# Altium footprint library PcbLib2.PcbLib: 4 footprints
Each footprint in its own frame and in the unit in brackets; x right, y up, seen from the top. Pads: shape width x height; smd on the part's side, far side on the other; paste and mask are expansions set on the pad; w line width, h text height; cw(c..) or ccw(c..) is an arc to the next point about the centre after c.
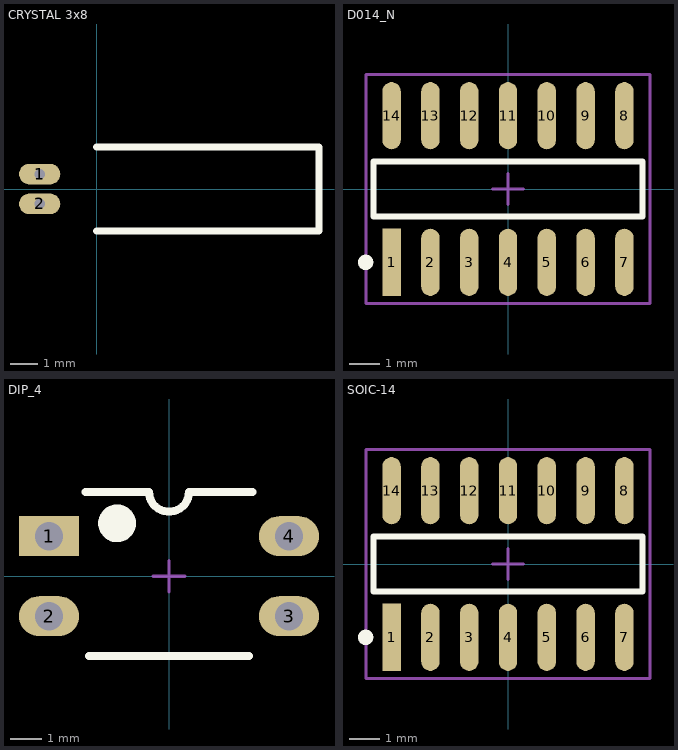
[diagram p0: the footprints below, top view; thin cyan lines are the x and y axes]

## CRYSTAL 3x8 [mil]
pads (2):
  oval 60x30 hole 15: 1(-82.68,21.65) 2(-82.68,-21.65)
Top Overlay:
  lines w10: 0,-61.02 322.83,-61.02 322.83,61.02 0,61.02
3D body: height 120.08, standoff -1.97, extent -116.13,-61.03 322.84,61.02

## D014_N [mm] "SOIC, 14-Leads, Body 8.7x3.9mm, Pitch 1.27mm, IPC Medium Density"
height 1.75
pads (14):
  rect 0.6x2.2 smd: 1(-3.81,-2.4)
  oval 0.6x2.2 smd: 2(-2.54,-2.4) 3(-1.27,-2.4) 4(0,-2.4) 5(1.27,-2.4) 6(2.54,-2.4) 7(3.81,-2.4) 8(3.81,2.4) 9(2.54,2.4) 10(1.27,2.4) 11(0,2.4) 12(-1.27,2.4) 13(-2.54,2.4) 14(-3.81,2.4)
Top Overlay:
  circle w0.25: c-4.66,-2.4 r0.125
  lines w0.2: -4.4,-0.9 -4.4,0.9 4.4,0.9 4.4,-0.9 -4.4,-0.9
Mechanical 15:
  lines w0.1: -0.5,0 0.5,0 ; 0,-0.5 0,0.5 ; -4.65,-3.75 -4.65,3.75 4.65,3.75 4.65,-3.75 -4.65,-3.75
3D body: height 1.75, standoff 0, extent -4.375,-3 4.375,3

## DIP_4 [mm]
pads (4):
  rect 1.905x1.27 hole 0.9: 1(-3.81,1.27)
  oval 1.905x1.27 hole 0.9: 2(-3.81,-1.27) 3(3.81,-1.27) 4(3.81,1.27)
Top Overlay:
  circle w0.6: c-1.65,1.68 r0.3
  lines w0.254: -2.65,2.68 -0.635,2.68 ccw(c0,2.68) 0.635,2.68 2.65,2.68 ; -2.54,-2.54 2.54,-2.54
Mechanical 15:
  lines w0.1: -0.5,0 0.5,0 ; 0,-0.5 0,0.5
3D body: height 4.31, standoff -3.28, extent -4,-2.92 4,2.62

## SOIC-14 [mm] "SOIC-14  NARROW BODY"
pads (14):
  rect 0.6x2.2 smd: 1(-3.81,-2.4)
  oval 0.6x2.2 smd: 2(-2.54,-2.4) 3(-1.27,-2.4) 4(0,-2.4) 5(1.27,-2.4) 6(2.54,-2.4) 7(3.81,-2.4) 8(3.81,2.4) 9(2.54,2.4) 10(1.27,2.4) 11(0,2.4) 12(-1.27,2.4) 13(-2.54,2.4) 14(-3.81,2.4)
Top Overlay:
  circle w0.25: c-4.66,-2.4 r0.125
  lines w0.2: -4.4,-0.9 -4.4,0.9 4.4,0.9 4.4,-0.9 -4.4,-0.9
Mechanical 15:
  lines w0.1: -0.5,0 0.5,0 ; 0,-0.5 0,0.5 ; -4.65,-3.75 -4.65,3.75 4.65,3.75 4.65,-3.75 -4.65,-3.75
3D body: height 1.75, standoff 0, extent -4.375,-3 4.375,3